# EAGLE library part IV17 (library XXXXXXtube supl)
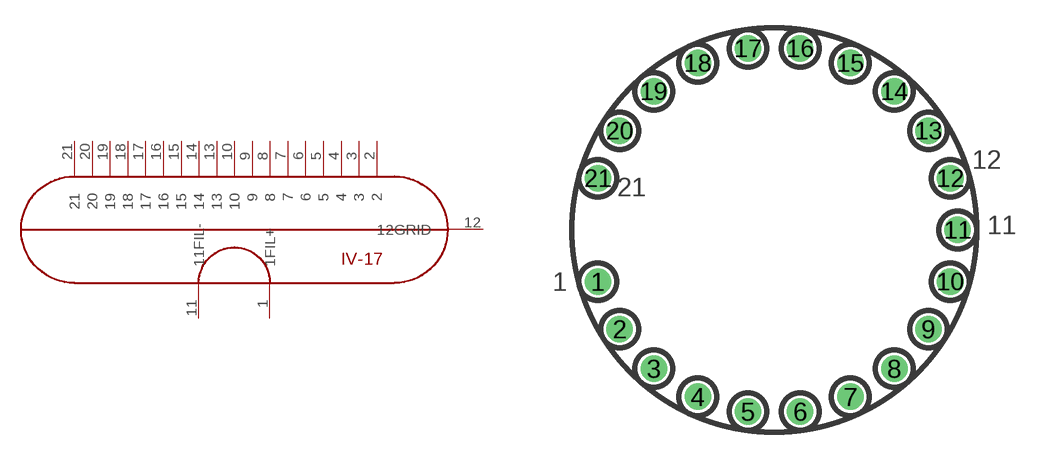
[diagram p0: symbol with the pads of NIXIE-22; footprint NIXIE-22]

Designator prefix -

## IV17  [NIXIE-22]
1  1FIL+
2  2
3  3
4  4
5  5
6  6
7  7
8  8
9  9
10  10
11  11FIL-
12  12GRID
13  13
14  14
15  15
16  16
17  17
18  18
19  19
20  20
21  21

## Footprint NIXIE-22 (pad centres in mm)
Eagle SCR autogenerated 22 pin Nixie socket
drill 0.7 pad 1.422: 1 -9.451,-2.775; 2 -8.287,-5.325; 3 -6.45,-7.444; 4 -4.092,-8.96; 5 -1.402,-9.75; 6 1.402,-9.75; 7 4.092,-8.96; 8 6.45,-7.444; 9 8.287,-5.325; 10 9.451,-2.775; 11 9.85,0; 12 9.451,2.775; 13 8.287,5.325; 14 6.45,7.444; 15 4.092,8.96; 16 1.402,9.75; 17 -1.402,9.75; 18 -4.092,8.96; 19 -6.45,7.444; 20 -8.287,5.325; 21 -9.451,2.775